# Altium schematic symbol library rf_transceiver.SchLib: 4 symbols
Pins are listed as number, name and electrical type; pins without a type are passive.

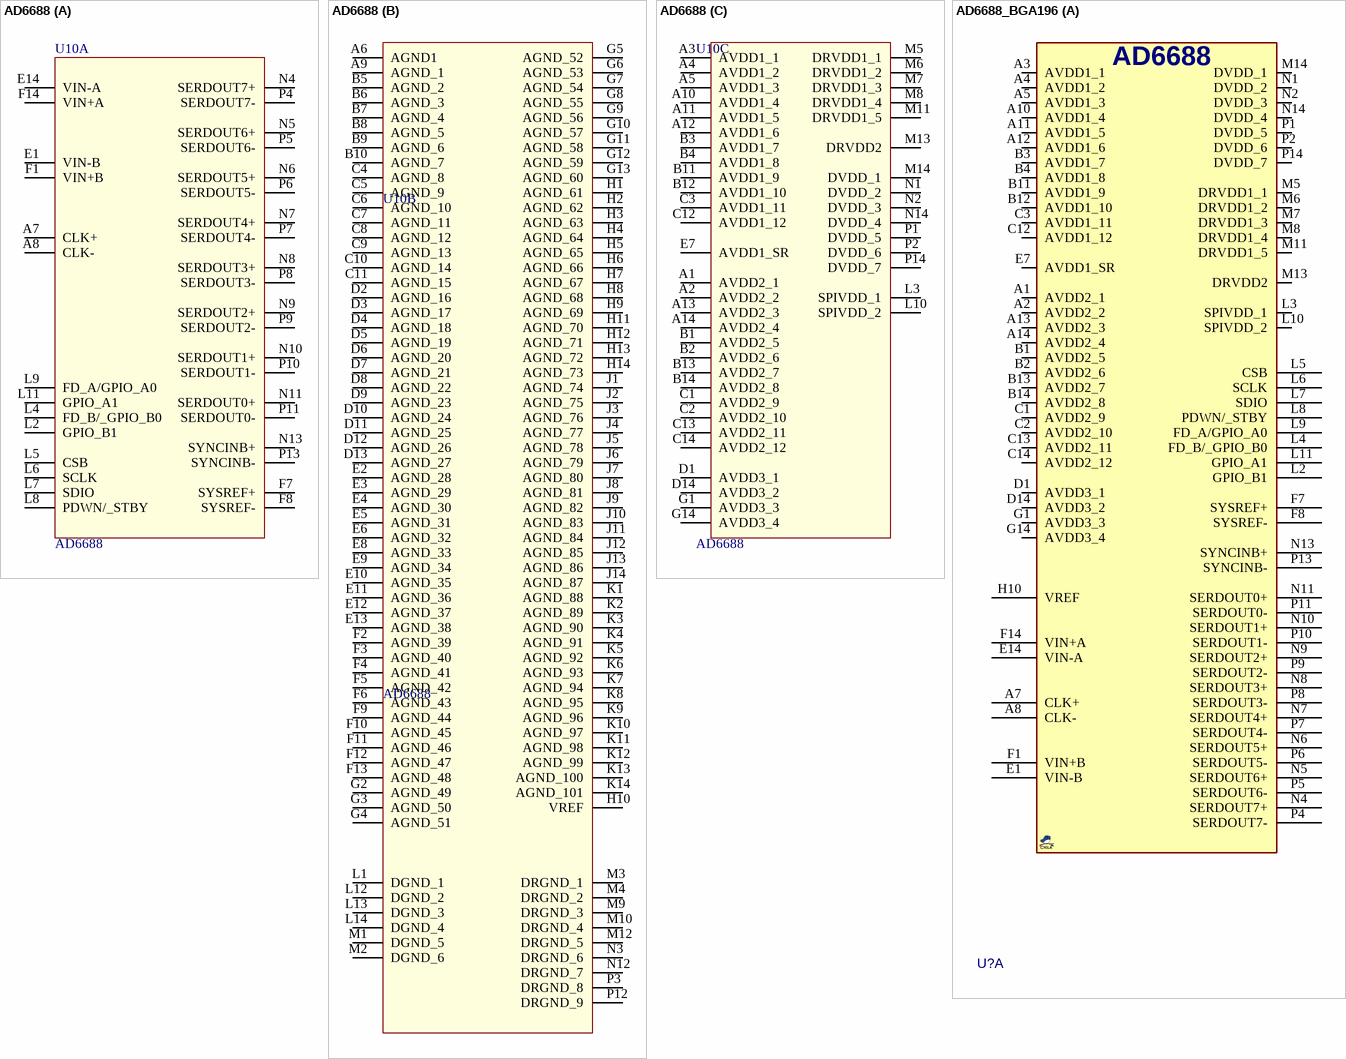
[diagram p0: symbols AD6688 to AD6688_BGA196]

## AD6688
designator U10
Analog to Digital Converters; Manufacturer_Name: Analog Devices; Manufacturer_Part_Number: AD9689BBPZ-2000; Geometry.Height: 1.53mm; Mouser Part Number: 584-AD9689BBPZ-2000; Mouser Price/Stock: https://www.mouser.co.uk/ProductDetail/Analog-Devices/AD9689BBPZ-2000?qs=f9yNj16SXrJ4ObFxBjCN8Q%3D%3D; Datasheet Link: https://www.analog.com/media/en/technical-documentation/data-sheets/AD9689.pdf
footprint BGA80_196_S12 (BP-196-4, 0.8mm pitch, 12X12X1.53mm)
part A pins: A7 CLK+, A8 CLK-, E1 VIN-B, E14 VIN-A, F1 VIN+B, F7 SYSREF+, F8 SYSREF-, F14 VIN+A, L2 GPIO_B1, L4 FD_B/_GPIO_B0, L5 CSB, L6 SCLK, L7 SDIO, L8 PDWN/_STBY, L9 FD_A/GPIO_A0, L11 GPIO_A1, N4 SERDOUT7+, N5 SERDOUT6+, N6 SERDOUT5+, N7 SERDOUT4+, N8 SERDOUT3+, N9 SERDOUT2+, N10 SERDOUT1+, N11 SERDOUT0+, N13 SYNCINB+, P4 SERDOUT7-, P5 SERDOUT6-, P6 SERDOUT5-, P7 SERDOUT4-, P8 SERDOUT3-, P9 SERDOUT2-, P10 SERDOUT1-, P11 SERDOUT0-, P13 SYNCINB-
part B pins: A6 AGND1, A9 AGND_1, B5 AGND_2, B6 AGND_3, B7 AGND_4, B8 AGND_5, B9 AGND_6, B10 AGND_7, C4 AGND_8, C5 AGND_9, C6 AGND_10, C7 AGND_11, C8 AGND_12, C9 AGND_13, C10 AGND_14, C11 AGND_15, D2 AGND_16, D3 AGND_17, D4 AGND_18, D5 AGND_19, D6 AGND_20, D7 AGND_21, D8 AGND_22, D9 AGND_23, D10 AGND_24, D11 AGND_25, D12 AGND_26, D13 AGND_27, E2 AGND_28, E3 AGND_29, E4 AGND_30, E5 AGND_31, E6 AGND_32, E8 AGND_33, E9 AGND_34, E10 AGND_35, E11 AGND_36, E12 AGND_37, E13 AGND_38, F2 AGND_39, F3 AGND_40, F4 AGND_41, F5 AGND_42, F6 AGND_43, F9 AGND_44, F10 AGND_45, F11 AGND_46, F12 AGND_47, F13 AGND_48, G2 AGND_49, G3 AGND_50, G4 AGND_51, G5 AGND_52, G6 AGND_53, G7 AGND_54, G8 AGND_55, G9 AGND_56, G10 AGND_57, G11 AGND_58, G12 AGND_59, G13 AGND_60, H1 AGND_61, H2 AGND_62, H3 AGND_63, H4 AGND_64, H5 AGND_65, H6 AGND_66, H7 AGND_67, H8 AGND_68, H9 AGND_69, H10 VREF, H11 AGND_70, H12 AGND_71, H13 AGND_72, H14 AGND_73, J1 AGND_74, J2 AGND_75, J3 AGND_76, J4 AGND_77, J5 AGND_78, J6 AGND_79, J7 AGND_80, J8 AGND_81, J9 AGND_82, J10 AGND_83, J11 AGND_84, J12 AGND_85, J13 AGND_86, J14 AGND_87, K1 AGND_88, K2 AGND_89, K3 AGND_90, K4 AGND_91, K5 AGND_92, K6 AGND_93, K7 AGND_94, K8 AGND_95, K9 AGND_96, K10 AGND_97, K11 AGND_98, K12 AGND_99, K13 AGND_100, K14 AGND_101, L1 DGND_1, L12 DGND_2, L13 DGND_3, L14 DGND_4, M1 DGND_5, M2 DGND_6, M3 DRGND_1, M4 DRGND_2, M9 DRGND_3, M10 DRGND_4, M12 DRGND_5, N3 DRGND_6, N12 DRGND_7, P3 DRGND_8, P12 DRGND_9
part C pins: A1 AVDD2_1, A2 AVDD2_2, A3 AVDD1_1, A4 AVDD1_2, A5 AVDD1_3, A10 AVDD1_4, A11 AVDD1_5, A12 AVDD1_6, A13 AVDD2_3, A14 AVDD2_4, B1 AVDD2_5, B2 AVDD2_6, B3 AVDD1_7, B4 AVDD1_8, B11 AVDD1_9, B12 AVDD1_10, B13 AVDD2_7, B14 AVDD2_8, C1 AVDD2_9, C2 AVDD2_10, C3 AVDD1_11, C12 AVDD1_12, C13 AVDD2_11, C14 AVDD2_12, D1 AVDD3_1, D14 AVDD3_2, E7 AVDD1_SR, G1 AVDD3_3, G14 AVDD3_4, L3 SPIVDD_1, L10 SPIVDD_2, M5 DRVDD1_1, M6 DRVDD1_2, M7 DRVDD1_3, M8 DRVDD1_4, M11 DRVDD1_5, M13 DRVDD2, M14 DVDD_1, N1 DVDD_2, N2 DVDD_3, N14 DVDD_4, P1 DVDD_5, P2 DVDD_6, P14 DVDD_7

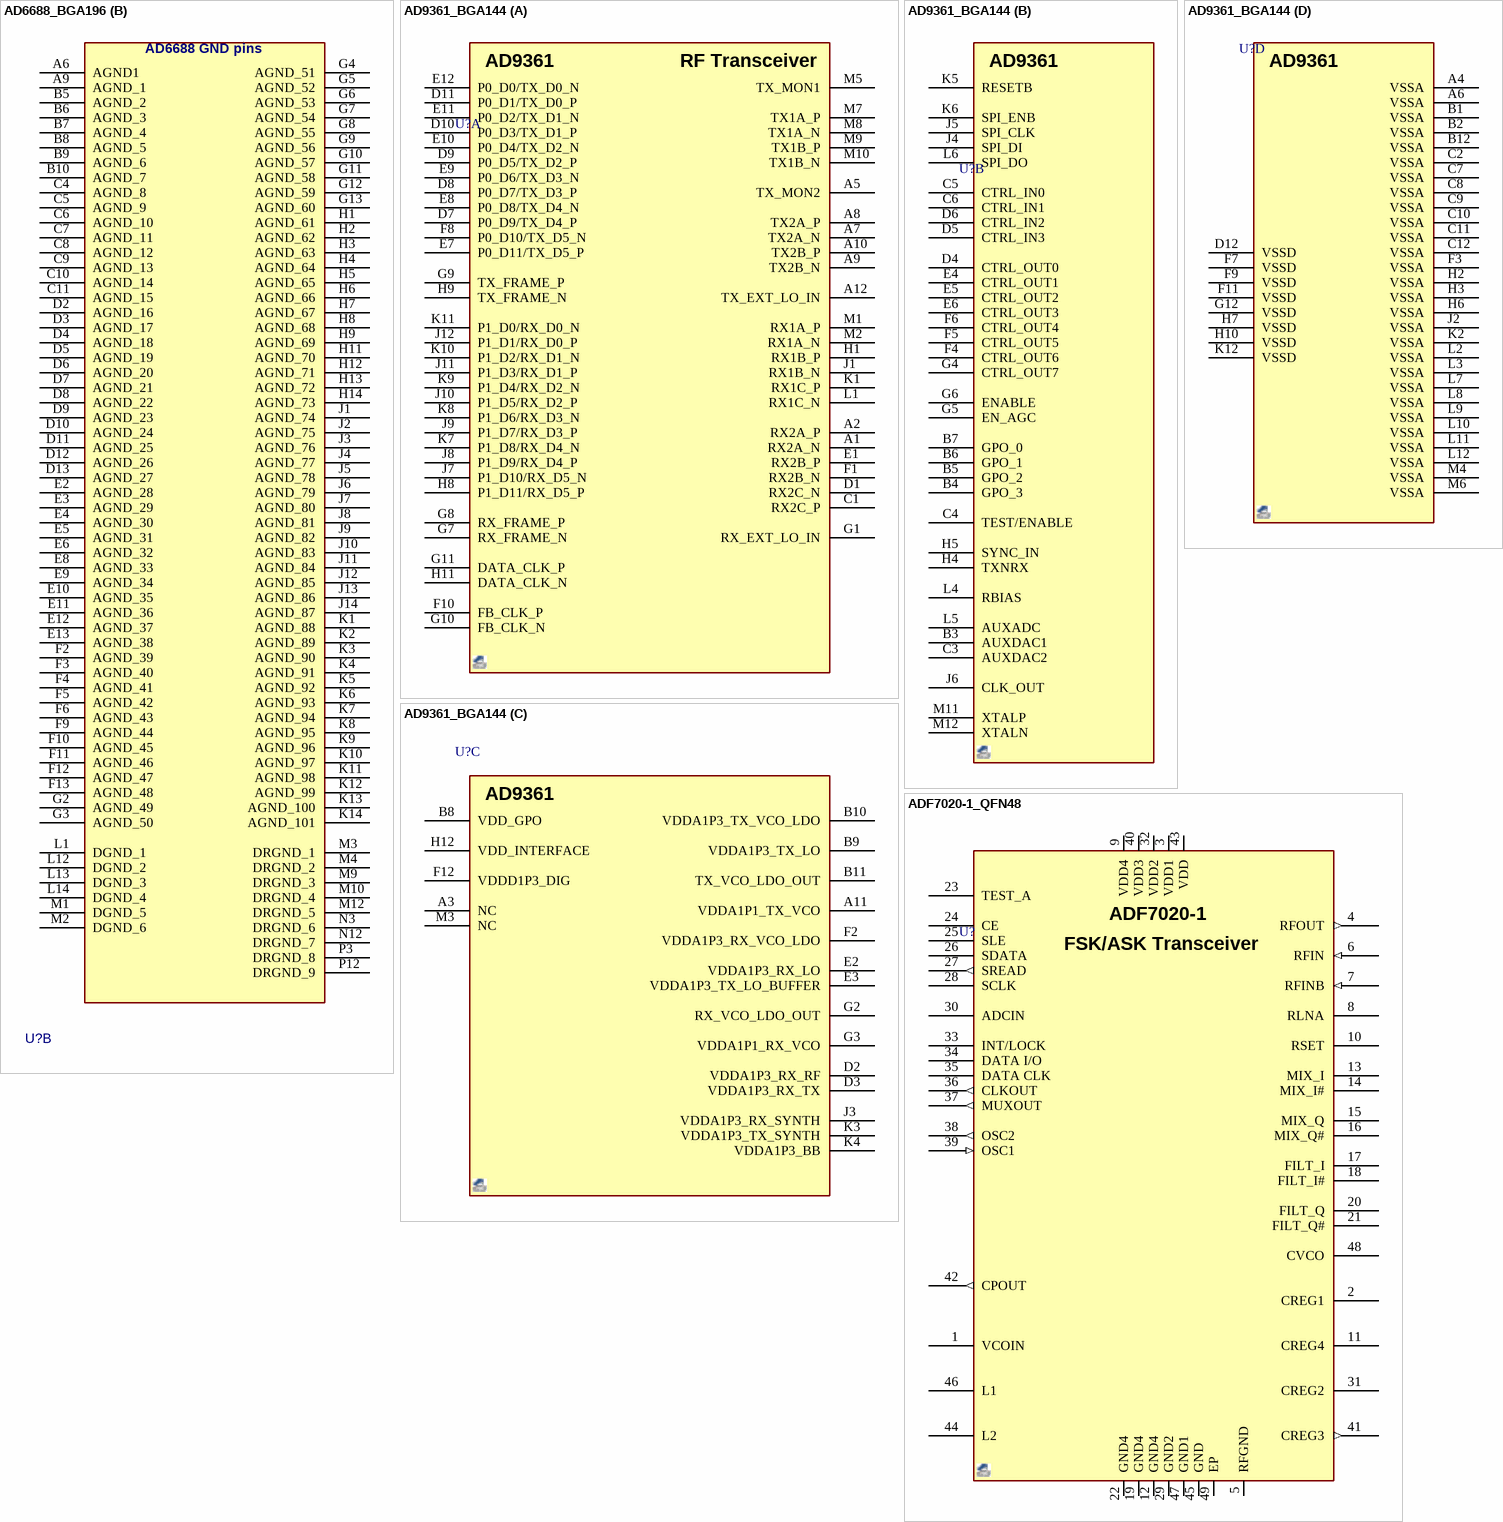
[diagram p1: symbols AD6688_BGA196 to ADF7020-1_QFN48]

## AD6688_BGA196
designator U?, comment AD6688  (value not drawn)
RF Diversity, 1.2GHz Bandwidth, JESD204B; MANF: Analog Devices; DESC: DESCRIPTION; MANF_P#: AD6688BBPZ; PARAM2: 0.975V, 1.8V, 2.5V; ASSEMBLY: ASSEMBLY; PARAM: PARAM; PRICE: 1200$; VALUE: AD6688
footprint BGA80_196_S12 (Footprint not found)
part A pins: A1 AVDD2_1, A2 AVDD2_2, A3 AVDD1_1, A4 AVDD1_2, A5 AVDD1_3, A7 CLK+, A8 CLK-, A10 AVDD1_4, A11 AVDD1_5, A12 AVDD1_6, A13 AVDD2_3, A14 AVDD2_4, B1 AVDD2_5, B2 AVDD2_6, B3 AVDD1_7, B4 AVDD1_8, B11 AVDD1_9, B12 AVDD1_10, B13 AVDD2_7, B14 AVDD2_8, C1 AVDD2_9, C2 AVDD2_10, C3 AVDD1_11, C12 AVDD1_12, C13 AVDD2_11, C14 AVDD2_12, D1 AVDD3_1, D14 AVDD3_2, E1 VIN-B, E7 AVDD1_SR, E14 VIN-A, F1 VIN+B, F7 SYSREF+, F8 SYSREF-, F14 VIN+A, G1 AVDD3_3, G14 AVDD3_4, H10 VREF, L2 GPIO_B1, L3 SPIVDD_1, L4 FD_B/_GPIO_B0, L5 CSB, L6 SCLK, L7 SDIO, L8 PDWN/_STBY, L9 FD_A/GPIO_A0, L10 SPIVDD_2, L11 GPIO_A1, M5 DRVDD1_1, M6 DRVDD1_2, M7 DRVDD1_3, M8 DRVDD1_4, M11 DRVDD1_5, M13 DRVDD2, M14 DVDD_1, N1 DVDD_2, N2 DVDD_3, N4 SERDOUT7+, N5 SERDOUT6+, N6 SERDOUT5+, N7 SERDOUT4+, N8 SERDOUT3+, N9 SERDOUT2+, N10 SERDOUT1+, N11 SERDOUT0+, N13 SYNCINB+, N14 DVDD_4, P1 DVDD_5, P2 DVDD_6, P4 SERDOUT7-, P5 SERDOUT6-, P6 SERDOUT5-, P7 SERDOUT4-, P8 SERDOUT3-, P9 SERDOUT2-, P10 SERDOUT1-, P11 SERDOUT0-, P13 SYNCINB-, P14 DVDD_7
part B pins: A6 AGND1, A9 AGND_1, B5 AGND_2, B6 AGND_3, B7 AGND_4, B8 AGND_5, B9 AGND_6, B10 AGND_7, C4 AGND_8, C5 AGND_9, C6 AGND_10, C7 AGND_11, C8 AGND_12, C9 AGND_13, C10 AGND_14, C11 AGND_15, D2 AGND_16, D3 AGND_17, D4 AGND_18, D5 AGND_19, D6 AGND_20, D7 AGND_21, D8 AGND_22, D9 AGND_23, D10 AGND_24, D11 AGND_25, D12 AGND_26, D13 AGND_27, E2 AGND_28, E3 AGND_29, E4 AGND_30, E5 AGND_31, E6 AGND_32, E8 AGND_33, E9 AGND_34, E10 AGND_35, E11 AGND_36, E12 AGND_37, E13 AGND_38, F2 AGND_39, F3 AGND_40, F4 AGND_41, F5 AGND_42, F6 AGND_43, F9 AGND_44, F10 AGND_45, F11 AGND_46, F12 AGND_47, F13 AGND_48, G2 AGND_49, G3 AGND_50, G4 AGND_51, G5 AGND_52, G6 AGND_53, G7 AGND_54, G8 AGND_55, G9 AGND_56, G10 AGND_57, G11 AGND_58, G12 AGND_59, G13 AGND_60, H1 AGND_61, H2 AGND_62, H3 AGND_63, H4 AGND_64, H5 AGND_65, H6 AGND_66, H7 AGND_67, H8 AGND_68, H9 AGND_69, H11 AGND_70, H12 AGND_71, H13 AGND_72, H14 AGND_73, J1 AGND_74, J2 AGND_75, J3 AGND_76, J4 AGND_77, J5 AGND_78, J6 AGND_79, J7 AGND_80, J8 AGND_81, J9 AGND_82, J10 AGND_83, J11 AGND_84, J12 AGND_85, J13 AGND_86, J14 AGND_87, K1 AGND_88, K2 AGND_89, K3 AGND_90, K4 AGND_91, K5 AGND_92, K6 AGND_93, K7 AGND_94, K8 AGND_95, K9 AGND_96, K10 AGND_97, K11 AGND_98, K12 AGND_99, K13 AGND_100, K14 AGND_101, L1 DGND_1, L12 DGND_2, L13 DGND_3, L14 DGND_4, M1 DGND_5, M2 DGND_6, M3 DRGND_1, M4 DRGND_2, M9 DRGND_3, M10 DRGND_4, M12 DRGND_5, N3 DRGND_6, N12 DRGND_7, P3 DRGND_8, P12 DRGND_9
part B text: AD6688 GND pins

## AD9361_BGA144
designator U?, comment AD9361  (value not drawn)
RF Transceiver, 12-bit DAC&ADC, 47M~6GHz, BGA144; MANF: Analog Devices; MANF_P#: AD9361BBCZ; PARAM2: 1.3V, 1.2~2.5VIO; DIST#: -; PARAM: 12-bit DAC&ADC, 47M~6GHz; PRICE: 238$; VALUE: AD9361
footprint BGA80_144_S10 (BC-144-7)
part A pins: A1 RX2A_N, A2 RX2A_P, A5 TX_MON2, A7 TX2A_N, A8 TX2A_P, A9 TX2B_N, A10 TX2B_P, A12 TX_EXT_LO_IN, C1 RX2C_P, D1 RX2C_N, D7 P0_D9/TX_D4_P, D8 P0_D7/TX_D3_P, D9 P0_D5/TX_D2_P, D10 P0_D3/TX_D1_P, D11 P0_D1/TX_D0_P, E1 RX2B_P, E7 P0_D11/TX_D5_P, E8 P0_D8/TX_D4_N, E9 P0_D6/TX_D3_N, E10 P0_D4/TX_D2_N, E11 P0_D2/TX_D1_N, E12 P0_D0/TX_D0_N, F1 RX2B_N, F8 P0_D10/TX_D5_N, F10 FB_CLK_P, G1 RX_EXT_LO_IN, G7 RX_FRAME_N, G8 RX_FRAME_P, G9 TX_FRAME_P, G10 FB_CLK_N, G11 DATA_CLK_P, H1 RX1B_P, H8 P1_D11/RX_D5_P, H9 TX_FRAME_N, H11 DATA_CLK_N, J1 RX1B_N, J7 P1_D10/RX_D5_N, J8 P1_D9/RX_D4_P, J9 P1_D7/RX_D3_P, J10 P1_D5/RX_D2_P, J11 P1_D3/RX_D1_P, J12 P1_D1/RX_D0_P, K1 RX1C_P, K7 P1_D8/RX_D4_N, K8 P1_D6/RX_D3_N, K9 P1_D4/RX_D2_N, K10 P1_D2/RX_D1_N, K11 P1_D0/RX_D0_N, L1 RX1C_N, M1 RX1A_P, M2 RX1A_N, M5 TX_MON1, M7 TX1A_P, M8 TX1A_N, M9 TX1B_P, M10 TX1B_N
part B pins: B3 AUXDAC1, B4 GPO_3, B5 GPO_2, B6 GPO_1, B7 GPO_0, C3 AUXDAC2, C4 TEST/ENABLE, C5 CTRL_IN0, C6 CTRL_IN1, D4 CTRL_OUT0, D5 CTRL_IN3, D6 CTRL_IN2, E4 CTRL_OUT1, E5 CTRL_OUT2, E6 CTRL_OUT3, F4 CTRL_OUT6, F5 CTRL_OUT5, F6 CTRL_OUT4, G4 CTRL_OUT7, G5 EN_AGC, G6 ENABLE, H4 TXNRX, H5 SYNC_IN, J4 SPI_DI, J5 SPI_CLK, J6 CLK_OUT, K5 RESETB, K6 SPI_ENB, L4 RBIAS, L5 AUXADC, L6 SPI_DO, M11 XTALP, M12 XTALN
part C pins: A3 NC, A11 VDDA1P1_TX_VCO, B8 VDD_GPO, B9 VDDA1P3_TX_LO, B10 VDDA1P3_TX_VCO_LDO, B11 TX_VCO_LDO_OUT, D2 VDDA1P3_RX_RF, D3 VDDA1P3_RX_TX, E2 VDDA1P3_RX_LO, E3 VDDA1P3_TX_LO_BUFFER, F2 VDDA1P3_RX_VCO_LDO, F12 VDDD1P3_DIG, G2 RX_VCO_LDO_OUT, G3 VDDA1P1_RX_VCO, H12 VDD_INTERFACE, J3 VDDA1P3_RX_SYNTH, K3 VDDA1P3_TX_SYNTH, K4 VDDA1P3_BB, M3 NC
part D pins: A4 VSSA, A6 VSSA, B1 VSSA, B2 VSSA, B12 VSSA, C2 VSSA, C7 VSSA, C8 VSSA, C9 VSSA, C10 VSSA, C11 VSSA, C12 VSSA, D12 VSSD, F3 VSSA, F7 VSSD, F9 VSSD, F11 VSSD, G12 VSSD, H2 VSSA, H3 VSSA, H6 VSSA, H7 VSSD, H10 VSSD, J2 VSSA, K2 VSSA, K12 VSSD, L2 VSSA, L3 VSSA, L7 VSSA, L8 VSSA, L9 VSSA, L10 VSSA, L11 VSSA, L12 VSSA, M4 VSSA, M6 VSSA
part A text: RF Transceiver

## ADF7020-1_QFN48
designator U?, comment ADF7020-1  (value not drawn)
RF Transceiver, 200Kbps, 2.3~3.6VCC; MANF: Analog Devices; MANF_P#: ADF7020-1BCPZ; DIST#: -; PARAM: 200Kbps; PARAM2: 2.3~3.6VCC; PRICE: 238$; VALUE: ADF7020-1
footprint QFN50_48T (CP-48 (Analog Device),, MO-220-VKKD-2(JEDEC), RGZ S-PQFP-N48, S-PWQFN-N48(TI), 7X7mm, 0.5mm)
pins: 1 VCOIN, 2 CREG1, 3 VDD1 (power), 4 RFOUT (out), 5 RFGND, 6 RFIN (in), 7 RFINB (in), 8 RLNA, 9 VDD4 (power), 10 RSET, 11 CREG4, 12 GND4, 13 MIX_I, 14 MIX_I#, 15 MIX_Q, 16 MIX_Q#, 17 FILT_I, 18 FILT_I#, 19 GND4, 20 FILT_Q, 21 FILT_Q#, 22 GND4, 23 TEST_A, 24 CE, 25 SLE, 26 SDATA, 27 SREAD (out), 28 SCLK, 29 GND2, 30 ADCIN, 31 CREG2, 32 VDD2 (power), 33 INT/LOCK, 34 DATA I/O, 35 DATA CLK, 36 CLKOUT (out), 37 MUXOUT (out), 38 OSC2 (out), 39 OSC1 (in), 40 VDD3 (power), 41 CREG3 (out), 42 CPOUT (out), 43 VDD (power), 44 L2, 45 GND, 46 L1, 47 GND1, 48 CVCO, 49 EP
text: FSK/ASK Transceiver